# EAGLE library part LT3652EDDPBF (library PowerIC)
Power Tracking 2A Battery Charger for Solar Power
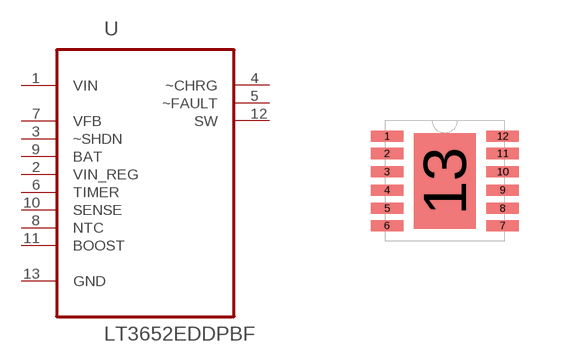
[diagram p0: symbol with the pads of DFN300X300X80-13N; footprint DFN300X300X80-13N]

Designator prefix U

## LT3652EDDPBFDFN-12 (MPN: LT3652EDD#PBF; OC_FARNELL: 2295370; OC_NEWARK: 62R9142; PACKAGE: DFN-12; SUPPLIER: Linear Technology)  [DFN300X300X80-13N]
1  VIN  pwr
2  VIN_REG  in
3  ~SHDN  in
4  ~CHRG  out
5  ~FAULT  out
6  TIMER  in
7  VFB  in
8  NTC  in
9  BAT  in
10  SENSE  in
11  BOOST  in
12  SW  out
13  GND  pas

## Footprint DFN300X300X80-13N (pad centres in mm)
smd 0.813 x 0.279: 1 -1.448,1.118; 2 -1.448,0.686; 3 -1.448,0.229; 4 -1.448,-0.229; 5 -1.448,-0.686; 6 -1.448,-1.118; 7 1.448,-1.118; 8 1.448,-0.686; 9 1.448,-0.229; 10 1.448,0.229; 11 1.448,0.686; 12 1.448,1.118
smd 1.549 x 2.388: 13 0,0